# Altium schematic symbol library Resistors.SchLib: 76 symbols (part 1 of 3)
Pins are listed as number, name and electrical type; pins without a type are passive.

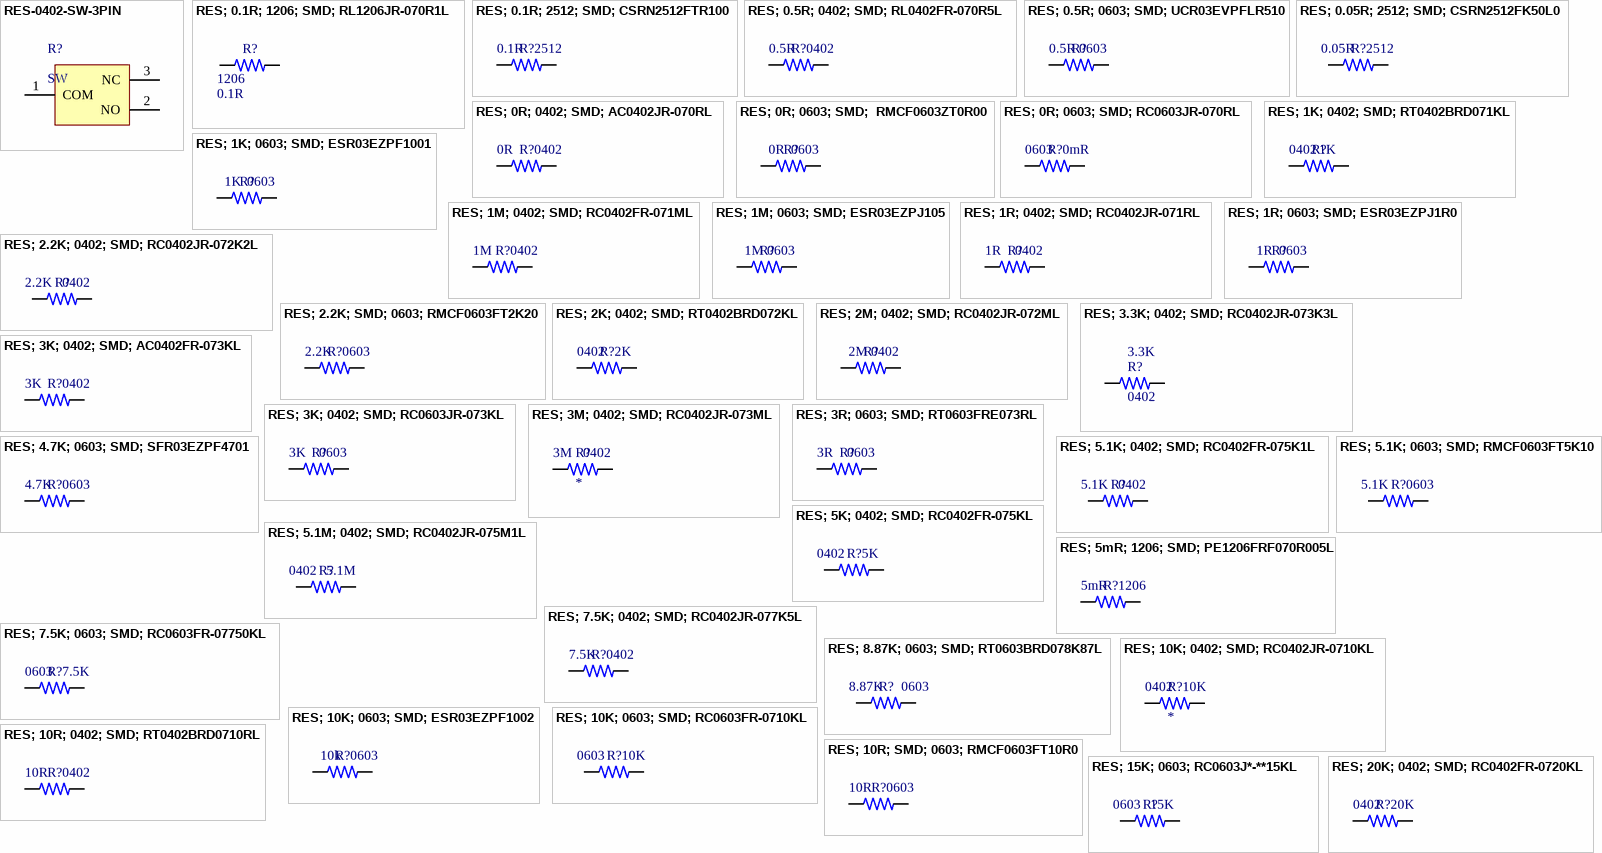
[diagram p0: symbols RES-0402-SW-3PIN to RES; 20K; 0402; SMD; RC0402FR-0720KL]

## RES-0402-SW-3PIN
designator R?, comment SW
Value: 0.1mR
footprint SMD-RES-0402-SW-A
footprint SMD-RES-0402-SW-B
footprint SMD-RES-0402-SW-C
pins: 1 COM, 2 NO, 3 NC

## RES; 0.1R; 1206; SMD; RL1206JR-070R1L
designator R?, comment value 0.1R  Package: 1206  (hidden comment: 100 mOhms ±5% 0.25W, 1/4W Chip Resistor 1206 (3216 Metric) Current Sense Thick Film)
SMD Chip Resistor, 100 MOhm, ± 5%, 250 mW, 1206 [3216 Metric], Thick Film, Low Ohmic; Manufacturer: Yageo; Manufacturer Part Number: RL1206JR-070R1L; Supplier: Future Electronics; Supplier Part Number: 1607514; RoHS: Yes; Category: Chip SMD Resistors; Stock: 195000; Pricing: 5000=0.0122, 10000=0.012, 15000=0.0119, 25000=0.0117, 50000=0.0114 (USD); ComponentLink1URL: https://datasheet.ciiva.com/8083/pyu-rl-521-rohs-l-5-8083925.pdf?src-supplier=Avnet; ComponentLink1Description: https://datasheet.ciiva.com/8083/pyu-rl-521-rohs-l-5-8083925.pdf?src-supplier=Avnet; ComponentLink2URL: https://datasheet.ciiva.com/5558/pyu-rl-hp-521-rohs-l-2-5558220.pdf?src-supplier=Mouser; ComponentLink2Description: https://datasheet.ciiva.com/5558/pyu-rl-hp-521-rohs-l-2-5558220.pdf?src-supplier=Mouser
footprint SMD-RES-1206-YAGEO
pins: 1, 2

## RES; 0.1R; 2512; SMD; CSRN2512FTR100
designator R?, comment value 0.1R  Package: 2512  (hidden comment: 100 mOhms ±1% 2W Chip Resistor 2512 (6432 Metric) Automotive AEC-Q200, Current Sense Thick Film)
Res Thick Film 2512 0.1 Ohm 1% 2W ±200ppm/°C Molded SMD SMD Plastic T/R; Manufacturer: Stackpole Electronics; Manufacturer Part Number: CSRN2512FTR100; Designer: TVBac; Supplier: Digikey; Supplier Part Number: CSRN2512FTR100CT-ND; RoHS: Yes; Category: Chip SMD Resistors; Stock: 1275; Pricing: 1=0.63, 10=0.357, 25=0.2888, 50=0.2474, 100=0.2129, 250=0.17608, 500=0.15346, 1000=0.13457, 4000=0.10551, 8000=0.1 (USD); Mounting Technology: Surface Mount; Case/Package: 2512; Case Code (Metric): 6432; Case Code (Imperial): 2512; Contact Plating: Tin,Matte; Min Operating Temperature: -55°C; Max Operating Temperature: 155°C; Power Rating: 2W; Tolerance: 1%; Packaging: Tape and Reel; Number of Terminations: 2; Max Power Dissipation: 2W; Temperature Coefficient: 200ppm/°C; Series: CSRN; Length: 0.25inch; Width: 0.124inch; Height: 0.028inch; Radiation Hardening: No; RoHS Compliant: Yes; ComponentLink1URL: https://www.seielect.com/Catalog/SEI-CSR_CSRN.pdf?src-supplier=Digikey; ComponentLink1Description: https://www.seielect.com/Catalog/SEI-CSR_CSRN.pdf?src-supplier=Digikey; ComponentLink2URL: https://www.seielect.com/catalog/SEI-Packaging.pdf?src-supplier=Digikey; ComponentLink2Description: https://www.seielect.com/catalog/SEI-Packaging.pdf?src-supplier=Digikey; ComponentLink3URL: https://www.seielect.com/Catalog/SEI-CSR_CSRN.pdf?src-supplier=Avnet; ComponentLink3Description: https://www.seielect.com/Catalog/SEI-CSR_CSRN.pdf?src-supplier=Avnet; ComponentLink4Description: Link Digikey; ComponentLink4URL: https://digikey.com/en/products/detail/stackpole-electronics-inc/CSRN2512FTR100/1742740
footprint SMD-RES-2512-SE
pins: 1, 2

## RES; 0.5R; 0402; SMD; RL0402FR-070R5L
designator R?, comment value 0.5R  Package: 0402  (hidden comment: 500 mOhms ±1% 0.063W, 1/16W Chip Resistor 0402 (1005 Metric) Current Sense Thick Film)
SMD Current Sense Resistor, 0.5 ohm, RL Series, 0402 [1005 Metric], 63 mW, ï¿½ 1%, Thick Film; Manufacturer: Yageo; Manufacturer Part Number: RL0402FR-070R5L; Supplier: Future Electronics; Supplier Part Number: 7039224; RoHS: Yes; Category: Chip SMD Resistors; Stock: 10000; Pricing: 10000=0.0223, 20000=0.022, 30000=0.0218, 40000=0.0216, 50000=0.0212 (USD); Lead Free: 5697LeadFree; ComponentLink1URL: http://www.mouser.com/ds/2/447/PYu-RL_521_RoHS_L_5-2927.pdf?src-supplier=Mouser; ComponentLink1Description: http://www.mouser.com/ds/2/447/PYu-RL_521_RoHS_L_5-2927.pdf?src-supplier=Mouser; ComponentLink2URL: http://www.yageo.com/exep/pages/download/literatures/R-chip_current%20sensor_20140512.pdf?src-supplier=Digikey; ComponentLink2Description: http://www.yageo.com/exep/pages/download/literatures/R-chip_current%20sensor_20140512.pdf?src-supplier=Digikey; ComponentLink3URL: http://www.yageo.com/documents/recent/PYu-RL_Group_521_RoHS_L_2.pdf?src-supplier=Digikey; ComponentLink3Description: http://www.yageo.com/documents/recent/PYu-RL_Group_521_RoHS_L_2.pdf?src-supplier=Digikey; ComponentLink4URL: https://datasheet.octopart.com/RL0402FR-070R5L-Yageo-datasheet-83209227.pdf?src-supplier=Future+Electronics; ComponentLink4Description: https://datasheet.octopart.com/RL0402FR-070R5L-Yageo-datasheet-83209227.pdf?src-supplier=Future+Electronics
footprint SMD-RES-0402-YAGEO
pins: 1, 2

## RES; 0.5R; 0603; SMD; UCR03EVPFLR510
designator R?, comment value 0.5R  Package: 0603  (hidden comment: 510 mOhms ±1% 0.2W, 1/5W Chip Resistor 0603 (1608 Metric) Automotive AEC-Q200, Current Sense Thick Film)
Res Thick Film 0603 0.51 Ohm 1% 0.2W(1/5W) 0ppm/C to 150ppm/C Pad SMD T/R Automotive AEC-Q200; Manufacturer: Rohm; Manufacturer Part Number: UCR03EVPFLR510; Temperature Coefficient: 150ppm/°C; Max Power Dissipation: 200mW; Designer: TVBac; Supplier: Mouser; Supplier Part Number: 755-UCR03EVPFLR510; RoHS: Yes; Category: Chip SMD Resistors; Stock: 9265; Pricing: 1=0.63, 10=0.319, 50=0.319, 100=0.229, 1000=0.153, 10000=0.136 (USD); Case/Package: 0603; Case Code (Metric): 1608; Case Code (Imperial): 0603; Min Operating Temperature: -55°C; Max Operating Temperature: 155°C; Packaging: Cut Tape; Tolerance: 1%; Number of Terminations: 2; Features: Automotive AEC-Q200; Series: UCR; Ratings: AEC-Q200; Lead Free: Lead Free; RoHS Compliant: Yes; ComponentLink1URL: https://datasheet.ciiva.com/14926/ucr-14926334.pdf?src-supplier=Digikey; ComponentLink1Description: https://datasheet.ciiva.com/14926/ucr-14926334.pdf?src-supplier=Digikey; ComponentLink2URL: https://datasheet.ciiva.com/14927/ucr-14927064.pdf?src-supplier=Digikey; ComponentLink2Description: https://datasheet.ciiva.com/14927/ucr-14927064.pdf?src-supplier=Digikey; ComponentLink3Description: Link Digikey; ComponentLink3URL: https://www.digikey.com/en/products/detail/rohm-semiconductor/UCR03EVPFLR510/4053600
footprint SMD-RES-0603-RS
pins: 1, 2

## RES; 0.05R; 2512; SMD; CSRN2512FK50L0
designator R?, comment value 0.05R  Package: 2512  (hidden comment: 50 mOhms ±1% 2W Chip Resistor 2512 (6432 Metric) Automotive AEC-Q200, Current Sense Thick Film)
Res Thick Film 2512 0.05 Ohm 1% 2W ±200ppm/°C Molded SMD SMD Plastic T/R; Manufacturer: Stackpole Electronics; Manufacturer Part Number: CSRN2512FK50L0; Designer: TVBac; Supplier: Digikey; Supplier Part Number: CSRN2512FK50L0CT-ND; RoHS: Yes; Category: Chip SMD Resistors; Stock: 130078; Pricing: 1=0.58, 10=0.407, 25=0.3484, 50=0.303, 100=0.2374, 250=0.21716, 500=0.17676 (USD); Mounting Technology: Surface Mount; Case/Package: 2512; Case Code (Metric): 6432; Case Code (Imperial): 2512; Contact Plating: Tin,Matte; Min Operating Temperature: -55°C; Max Operating Temperature: 155°C; Power Rating: 2W; Tolerance: 1%; Packaging: Tape and Reel; Number of Terminations: 2; Max Power Dissipation: 2W; Temperature Coefficient: 200ppm/°C; Series: CSRN; Construction: Rectangular; Length: 0.25inch; Width: 0.124inch; Height: 0.028inch; Depth: 3.15mm; Radiation Hardening: No; Military Standard: Not; Lead Free: Lead Free; RoHS Compliant: Yes; ComponentLink1URL: http://components.arrow.com/part/dataview/53687893S278672N1174?src-supplier=Arrow+Electronics; ComponentLink1Description: http://components.arrow.com/part/dataview/53687893S278672N1174?src-supplier=Arrow+Electronics; ComponentLink2URL: https://www.seielect.com/Catalog/SEI-CSR_CSRN.pdf?src-supplier=Digikey; ComponentLink2Description: https://www.seielect.com/Catalog/SEI-CSR_CSRN.pdf?src-supplier=Digikey; ComponentLink3URL: https://www.seielect.com/catalog/SEI-Packaging.pdf?src-supplier=Digikey; ComponentLink3Description: https://www.seielect.com/catalog/SEI-Packaging.pdf?src-supplier=Digikey; ComponentLink4URL: https://www.seielect.com/Catalog/SEI-CSR_CSRN.pdf?src-supplier=Avnet; ComponentLink4Description: https://www.seielect.com/Catalog/SEI-CSR_CSRN.pdf?src-supplier=Avnet; ComponentLink5URL: https://www.verical.com/server-webapp/html/getDatasheet?partID=698872&src-supplier=Verical; ComponentLink5Description: https://www.verical.com/server-webapp/html/getDatasheet?partID=698872&src-supplier=Verical; ComponentLink6URL: http://www.seielect.com/Catalog/SEI-CSR_CSRN.pdf?src-supplier=Future+Electronics; ComponentLink6Description: http://www.seielect.com/Catalog/SEI-CSR_CSRN.pdf?src-supplier=Future+Electronics; ComponentLink7Description: Link Digikey; ComponentLink7URL: https://www.digikey.com/en/products/detail/stackpole-electronics-inc/CSRN2512FK50L0/1646108
footprint SMD-RES-2512-SE
pins: 1, 2

## RES; 0R; 0402; SMD; AC0402JR-070RL
designator R?, comment value 0R  Package: 0402  (hidden comment: 0 Ohms Jumper Chip Resistor 0402 (1005 Metric) Automotive AEC-Q200, Moisture Resistant Thick Film)
Zero Ohm Resistor, Jumper, 0402 [1005 Metric], Thick Film, 63 mW, 1 A, Surface Mount Device; Manufacturer: Yageo; Manufacturer Part Number: AC0402JR-070RL; Voltage Rating: 50V; Power Rating: 62.5mW; Tolerance: 5%; Temperature Coefficient: 200ppm/°C; Max Power Dissipation: 63mW; Supplier: Future Electronics; Supplier Part Number: 9026879; RoHS: Yes; Category: Chip SMD Resistors; Stock: 7190000; Pricing: 10000=0.0014, 30000=0.0014, 40000=0.0009, 50000=0.0014, 200000=0.0013, 300000=0.0013, 400000=0.0008, 1250000=0.0008 (USD); Case/Package: 0402; Case Code (Imperial): 0402; Case Code (Metric): 1005; Min Operating Temperature: -55°C; Max Operating Temperature: 155°C; Packaging: Tape and Reel; Package Quantity: 1; Termination: SMD/SMT; Number of Terminations: 2; Features: Moisture Resistant,Automotive AEC-Q200,Anti-Sulfur; Series: AC; Length: 0.039inch; Width: 0.02inch; Height: 0.015inch; Ratings: AEC-Q200; Lead Free: Lead Free; RoHS Compliant: Yes; ComponentLink1URL: http://www.mouser.com/ds/2/447/yageodocoutput-1111992.pdf?src-supplier=Mouser; ComponentLink1Description: http://www.mouser.com/ds/2/447/yageodocoutput-1111992.pdf?src-supplier=Mouser; ComponentLink2URL: http://www.yageo.com/NewPortal/yageodocoutput?fileName=/pdf/R-Chip/PYu-AC_51_RoHS_L_6.pdf&src-supplier=Digikey; ComponentLink2Description: http://www.yageo.com/NewPortal/yageodocoutput?fileName=/pdf/R-Chip/PYu-AC_51_RoHS_L_6.pdf&src-supplier=Digikey; ComponentLink3URL: https://datasheet.octopart.com/AC0402JR-070RL-Yageo-datasheet-151884373.pdf?src-supplier=Newark; ComponentLink3Description: https://datasheet.octopart.com/AC0402JR-070RL-Yageo-datasheet-151884373.pdf?src-supplier=Newark; ComponentLink4URL: https://datasheet.octopart.com/AC0402JR-070RL-Yageo-datasheet-166720450.pdf?src-supplier=Future+Electronics; ComponentLink4Description: https://datasheet.octopart.com/AC0402JR-070RL-Yageo-datasheet-166720450.pdf?src-supplier=Future+Electronics; ComponentLink5URL: http://www.yageo.com/documents/recent/PYu-AC_51_RoHS_L_2_revised.pdf?src-supplier=Future+Electronics; ComponentLink5Description: http://www.yageo.com/documents/recent/PYu-AC_51_RoHS_L_2_revised.pdf?src-supplier=Future+Electronics
footprint SMD-RES-0402-YAGEO
pins: 1, 2

## RES; 0R; 0603; SMD;  RMCF0603ZT0R00
designator R?, comment value 0R  Package: 0603  (hidden comment: 0 Ohms Jumper Chip Resistor 0603 (1608 Metric) Automotive AEC-Q200 Thick Film)
Res Thick 0603 0 Ohm Jumper 1/10W 100Ppm/ C Smd Rohs Compliant: Yes; Manufacturer: Stackpole Electronics; Manufacturer Part Number: RMCF0603ZT0R00; Max Power Dissipation: 100mW; Voltage Rating: 75V; Designer: TVBac; Supplier: Digikey; Supplier Part Number: RMCF0603ZT0R00CT-ND; RoHS: Yes; Category: Chip SMD Resistors; Stock: 5949380; Pricing: 1=0.1, 10=0.013, 25=0.0096, 50=0.0072, 100=0.0051, 250=0.00408, 500=0.00328, 1000=0.00241, 5000=0.00173, 10000=0.0015, 25000=0.00132, 50000=0.00121, 125000=0.00118 (USD); Mounting Technology: Surface Mount; Case/Package: 0603; Case Code (Metric): 1608; Case Code (Imperial): 0603; Contact Plating: Tin,Matte; Min Operating Temperature: -55°C; Max Operating Temperature: 155°C; Packaging: Tape and Reel; Number of Terminations: 2; Features: Automotive AEC-Q200; Series: RMCF; Construction: Rectangular; Length: 1.55mm; Width: 0.031inch; Height: 0.022inch; Depth: 0.8mm; Radiation Hardening: No; Lead Free: 5697LeadFree; Military Standard: Not; RoHS Compliant: Yes; ComponentLink1URL: https://datasheet.octopart.com/RMCF0603ZT0R00-Stackpole-Electronics-datasheet-11547379.pdf?src-supplier=Future+Electronics; ComponentLink1Description: https://datasheet.octopart.com/RMCF0603ZT0R00-Stackpole-Electronics-datasheet-11547379.pdf?src-supplier=Future+Electronics; ComponentLink2URL: https://www.seielect.com/catalog/SEI-Packaging.pdf?src-supplier=Avnet; ComponentLink2Description: https://www.seielect.com/catalog/SEI-Packaging.pdf?src-supplier=Avnet; ComponentLink3URL: https://www.seielect.com/catalog/SEI-Packaging.pdf?src-supplier=Arrow+Electronics; ComponentLink3Description: https://www.seielect.com/catalog/SEI-Packaging.pdf?src-supplier=Arrow+Electronics; ComponentLink4URL: https://www.seielect.com/catalog/SEI-Packaging.pdf?src-supplier=Verical; ComponentLink4Description: https://www.seielect.com/catalog/SEI-Packaging.pdf?src-supplier=Verical; ComponentLink5URL: https://www.seielect.com/Catalog/SEI-RMCF_RMCP.pdf?src-supplier=Digikey; ComponentLink5Description: https://www.seielect.com/Catalog/SEI-RMCF_RMCP.pdf?src-supplier=Digikey; ComponentLink6URL: https://www.seielect.com/catalog/SEI-Packaging.pdf?src-supplier=Digikey; ComponentLink6Description: https://www.seielect.com/catalog/SEI-Packaging.pdf?src-supplier=Digikey; ComponentLink7URL: https://datasheet.octopart.com/RMCF0603ZT0R00-Stackpole-Electronics-datasheet-154799224.pdf?src-supplier=Master+Electronics; ComponentLink7Description: https://datasheet.octopart.com/RMCF0603ZT0R00-Stackpole-Electronics-datasheet-154799224.pdf?src-supplier=Master+Electronics; ComponentLink8Description: Link Digikey; ComponentLink8URL: https://www.digikey.com/en/products/detail/stackpole-electronics-inc/RMCF0603ZT0R00/1756908
footprint SMD-RES-0603-SEI
pins: 1, 2

## RES; 0R; 0603; SMD; RC0603JR-070RL
designator R?, comment value 0mR  Package: 0603  (hidden comment: 0 Ohms Jumper Chip Resistor 0603 (1608 Metric) Moisture Resistant Thick Film)
GENERAL PURPOSE CHIP RESISTOR Metal Glaze/thick Film, 0.1W, 0ohm, Surface Mount, 0603; Manufacturer: Yageo; Manufacturer Part Number: RC0603JR-070RL; Tolerance: 1%; Power Rating: 100mW; Voltage Rating (DC): 50V; Temperature Coefficient: 200ppm/°C; Resistance Tolerance: 5%; Supplier: Future Electronics; Supplier Part Number: 3992146; RoHS: Yes; Category: Chip SMD Resistors; Stock: 6155000; Pricing: 5000=0.0021, 20000=0.002, 25000=0.0012, 50000=0.0019, 100000=0.0012, 125000=0.0019, 200000=0.0018, 250000=0.0012, 625000=0.0011 (USD); Case/Package: 0603; Pins: 2; Contact Plating: Tin,Matte; Case Code (Imperial): 0603; Case Code (Metric): 1608; Min Operating Temperature: -55°C; Max Operating Temperature: 155°C; Package Quantity: 5000; Voltage Rating: 50V; Packaging: Tape and Reel; Termination: SMD/SMT; Resistor Type: Thick Film; Features: Moisture Resistant; Series: RC; Max Power Dissipation: 100mW; Number of Terminations: 2; Construction: Rectangular; Technology: THICK FILM; Length: 1.6mm; Width: 0.8mm; Height: 0.45mm; Depth: 0.8mm; Reach SVHC Compliant: Unknown; Lead Free: 5697LeadFree; Military Standard: Not; RoHS Compliant: Yes; ComponentLink1URL: https://datasheet.ciiva.com/11808/pyu-r-int-6-11808700.pdf?src-supplier=Rs; ComponentLink1Description: https://datasheet.ciiva.com/11808/pyu-r-int-6-11808700.pdf?src-supplier=Rs; ComponentLink2URL: https://datasheet.ciiva.com/22747/443971-22747530.pdf?src-supplier=Element14; ComponentLink2Description: https://datasheet.ciiva.com/22747/443971-22747530.pdf?src-supplier=Element14; ComponentLink3URL: https://datasheet.ciiva.com/12555/rc0603-272842-12555254.pdf?src-supplier=Mouser; ComponentLink3Description: https://datasheet.ciiva.com/12555/rc0603-272842-12555254.pdf?src-supplier=Mouser; ComponentLink4URL: https://datasheet.ciiva.com/7746/1738695-7746421.pdf?src-supplier=Element14; ComponentLink4Description: https://datasheet.ciiva.com/7746/1738695-7746421.pdf?src-supplier=Element14; ComponentLink5URL: https://datasheet.ciiva.com/7746/1738695-7746422.pdf?src-supplier=Element14; ComponentLink5Description: https://datasheet.ciiva.com/7746/1738695-7746422.pdf?src-supplier=Element14
footprint SMD-RES-0603-YAGEO
pins: 1, 2

## RES; 1K; 0402; SMD; RT0402BRD071KL
designator R?, comment value 1K  Package: 0402  (hidden comment: 1 kOhms ±0.1% 0.063W, 1/16W Chip Resistor 0402 (1005 Metric) Thin Film)
Res Thin Film 0402 1K Ohm 0.1% 0.063W(1/16W) ±25ppm/C Pad SMD T/R; Manufacturer: Yageo; Manufacturer Part Number: RT0402BRD071KL; Voltage Rating (DC): 50V; Supplier: Future Electronics; Supplier Part Number: 4395265; RoHS: Yes; Category: Chip SMD Resistors; Stock: 180000; Pricing: 10000=0.0311, 20000=0.0196, 30000=0.0194, 40000=0.0193, 50000=0.0189 (USD); Lead Free: 5697LeadFree; ComponentLink1URL: https://datasheet.ciiva.com/2582/pyu-rt-1-to-0-05-rohs-l-4-2582219.pdf?src-supplier=Digikey; ComponentLink1Description: https://datasheet.ciiva.com/2582/pyu-rt-1-to-0-05-rohs-l-4-2582219.pdf?src-supplier=Digikey; ComponentLink2URL: https://datasheet.ciiva.com/12837/pyu-rt-1-to-0-05-rohs-l-4-12837237.pdf?src-supplier=Mouser; ComponentLink2Description: https://datasheet.ciiva.com/12837/pyu-rt-1-to-0-05-rohs-l-4-12837237.pdf?src-supplier=Mouser; ComponentLink3URL: https://datasheet.ciiva.com/46635/pyu-rt-1-to-0-05-rohs-l-5-46635179.pdf?src-supplier=Digikey; ComponentLink3Description: https://datasheet.ciiva.com/46635/pyu-rt-1-to-0-05-rohs-l-5-46635179.pdf?src-supplier=Digikey
footprint SMD-RES-0402-YAGEO
pins: 1, 2

## RES; 1K; 0603; SMD; ESR03EZPF1001
designator R?, comment value 1K  Package: 0603  (hidden comment: 1 kOhms ±1% 0.25W, 1/4W Chip Resistor 0603 (1608 Metric) Automotive AEC-Q200, Pulse Withstanding Thick Film)
SMD Chip Resistor, 1 kOhm, ± 1%, 250 mW, 0603 [1608 Metric], Thick Film, Anti-Surge; Manufacturer: Rohm; Manufacturer Part Number: ESR03EZPF1001; Voltage Rating: 150V; Designer: TVBac; Supplier: Digikey; Supplier Part Number: RHM1.00KADCT-ND; RoHS: Yes; Category: Chip SMD Resistors; Stock: 2703233; Pricing: 1=0.11, 10=0.055, 50=0.0364, 100=0.0309, 500=0.02206, 1000=0.01943 (USD); Voltage Rating (DC): 150V; Lead Free: 5697LeadFree; ComponentLink1URL: https://datasheet.ciiva.com/2469/esr-2469712.pdf?src-supplier=Digikey; ComponentLink1Description: https://datasheet.ciiva.com/2469/esr-2469712.pdf?src-supplier=Digikey; ComponentLink2URL: https://datasheet.ciiva.com/2469/esr-2469713.pdf?src-supplier=Digikey; ComponentLink2Description: https://datasheet.ciiva.com/2469/esr-2469713.pdf?src-supplier=Digikey; ComponentLink3URL: https://datasheet.ciiva.com/2469/esr-2469714.pdf?src-supplier=Digikey; ComponentLink3Description: https://datasheet.ciiva.com/2469/esr-2469714.pdf?src-supplier=Digikey; ComponentLink4Description: Link Digikey; ComponentLink4URL: https://www.digikey.com/en/products/detail/rohm-semiconductor/ESR03EZPF1001/1983428
footprint SMD-RES-0603-SEI
pins: 1, 2

## RES; 1M; 0402; SMD; RC0402FR-071ML
designator R?, comment value 1M  Package: 0402  (hidden comment: 1 MOhms ±1% 0.063W, 1/16W Chip Resistor 0402 (1005 Metric) Moisture Resistant Thick Film)
SMD Chip Resistor 1 Mohm ½ 1% 63 Mw 0402 [1005 Metric] Thick Film General Purpose; Manufacturer: Yageo; Manufacturer Part Number: RC0402FR-071ML; Power Rating: 63mW; Voltage Rating: 50V; Temperature Coefficient: 100ppm/°C; Supplier: Future Electronics; Supplier Part Number: 9919234; RoHS: Yes; Category: Chip SMD Resistors; Stock: 4880000; Pricing: 10000=0.0012, 30000=0.0012, 50000=0.0007, 100000=0.0011, 200000=0.0011, 400000=0.0011, 500000=0.0007, 1250000=0.0006 (USD); Case/Package: 0402; Case Code (Imperial): 0402; Case Code (Metric): 1005; Min Operating Temperature: -55°C; Max Operating Temperature: 155°C; Packaging: Tape and Reel; Tolerance: 1%; Termination: SMD/SMT; Resistor Type: Thick Film; Features: Moisture Resistant; Series: RC; Max Power Dissipation: 63mW; Number of Terminations: 2; Resistance Tolerance: 1%; Construction: Rectangular; Technology: THICK FILM; Length: 1mm; Height: 0.32mm; Depth: 0.5mm; Military Standard: Not; RoHS Compliant: Yes; Reach SVHC Compliant: Unknown; Lead Free: 5697LeadFree
footprint SMD-RES-0402-YAGEO
pins: 1, 2

## RES; 1M; 0603; SMD; ESR03EZPJ105
designator R?, comment value 1M  Package: 0603  (hidden comment: 1 MOhms ±5% 0.25W, 1/4W Chip Resistor 0603 (1608 Metric) Automotive AEC-Q200, Pulse Withstanding Thick Film)
Res Thick Film 0603 1M Ohm 5% 0.25W(1/4W) ±200ppm/C Pad SMD Automotive T/R; Manufacturer: Rohm; Manufacturer Part Number: ESR03EZPJ105; Designer: TVBac; Supplier: Digikey; Supplier Part Number: RHM1MDCT-ND; RoHS: Yes; Category: Chip SMD Resistors; Stock: 155369; Pricing: 1=0.1, 10=0.048, 50=0.0312, 100=0.0265, 500=0.0188, 1000=0.0165 (USD); ComponentLink1URL: https://datasheet.ciiva.com/14924/esr-14924812.pdf?src-supplier=Digikey; ComponentLink1Description: https://datasheet.ciiva.com/14924/esr-14924812.pdf?src-supplier=Digikey; ComponentLink2URL: https://datasheet.ciiva.com/14928/esr-14928814.pdf?src-supplier=Digikey; ComponentLink2Description: https://datasheet.ciiva.com/14928/esr-14928814.pdf?src-supplier=Digikey; ComponentLink3URL: https://datasheet.ciiva.com/14930/esr-14930634.pdf?src-supplier=Digikey; ComponentLink3Description: https://datasheet.ciiva.com/14930/esr-14930634.pdf?src-supplier=Digikey; ComponentLink4Description: Link Digikey; ComponentLink4URL: https://www.digikey.com/en/products/detail/rohm-semiconductor/ESR03EZPJ105/4051181
footprint SMD-RES-0603-SEI
pins: 1, 2

## RES; 1R; 0402; SMD; RC0402JR-071RL
designator R?, comment value 1R  Package: 0402  (hidden comment: 1 Ohms ±5% 0.063W, 1/16W Chip Resistor 0402 (1005 Metric) Moisture Resistant Thick Film)
SMD Chip Resistor, 1 Ohm, ï¿½ 5%, 63 mW, 0402 [1005 Metric], Thick Film, General Purpose; Manufacturer: Yageo; Manufacturer Part Number: RC0402JR-071RL; Power Rating: 62.5mW; Voltage Rating: 50V; Temperature Coefficient: 200ppm/°C; Max Power Dissipation: 63mW; Supplier: Future Electronics; Supplier Part Number: 7711575; RoHS: Yes; Category: Chip SMD Resistors; Stock: 380000; Pricing: 10000=0.0012, 40000=0.0011, 150000=0.0011, 400000=0.001, 1000000=0.001 (USD); Case/Package: 0402; Case Code (Imperial): 0402; Case Code (Metric): 1005; Min Operating Temperature: -55°C; Max Operating Temperature: 155°C; Packaging: Tape and Reel; Tolerance: 5%; Termination: SMD/SMT; Resistor Type: Thick Film; Voltage Rating (DC): 50V; Features: Moisture Resistant; Series: RC; Number of Terminations: 2; Resistance Tolerance: 5%; Lead Free: Lead Free; RoHS Compliant: Yes; Reach SVHC Compliant: Unknown
footprint SMD-RES-0402-YAGEO
pins: 1, 2

## RES; 1R; 0603; SMD; ESR03EZPJ1R0
designator R?, comment value 1R  Package: 0603  (hidden comment: 1 Ohms ±5% 0.25W, 1/4W Chip Resistor 0603 (1608 Metric) Automotive AEC-Q200, Pulse Withstanding Thick Film)
Res Thick Film 0603 1 Ohm 5% 1/4W ±200ppm/°C Molded SMD Paper T/R; Manufacturer: Rohm; Manufacturer Part Number: ESR03EZPJ1R0; Max Power Dissipation: 250mW; Designer: TVBac; Supplier: Digikey; Supplier Part Number: RHM1DCT-ND; RoHS: Yes; Category: Chip SMD Resistors; Stock: 69330; Pricing: 1=0.14, 10=0.068, 50=0.0446, 100=0.0377, 500=0.02674, 1000=0.02347 (USD); Case/Package: 0603; Case Code (Metric): 1608; Case Code (Imperial): 0603; Min Operating Temperature: -55°C; Max Operating Temperature: 155°C; Package Quantity: 1; Packaging: Cut Tape; Tolerance: 5%; Number of Terminations: 2; Temperature Coefficient: 200ppm/°C; Features: Automotive AEC-Q200; Series: ESR; Length: 0.063inch; Width: 0.031inch; Height: 0.022inch; Lead Free: Lead Free; RoHS Compliant: Yes; ComponentLink1URL: https://datasheet.ciiva.com/14924/esr-14924789.pdf?src-supplier=Digikey; ComponentLink1Description: https://datasheet.ciiva.com/14924/esr-14924789.pdf?src-supplier=Digikey; ComponentLink2URL: https://datasheet.ciiva.com/14928/esr-14928791.pdf?src-supplier=Digikey; ComponentLink2Description: https://datasheet.ciiva.com/14928/esr-14928791.pdf?src-supplier=Digikey; ComponentLink3Description: Link Digikey; ComponentLink3URL: https://www.digikey.com/en/products/detail/rohm-semiconductor/ESR03EZPJ1R0/4051208
footprint SMD-RES-0603-SEI
pins: 1, 2

## RES; 2.2K; 0402; SMD; RC0402JR-072K2L
designator R?, comment value 2.2K  Package: 0402  (hidden comment: 2.2 kOhms ±5% 0.063W, 1/16W Chip Resistor 0402 (1005 Metric) Moisture Resistant Thick Film)
SMD Chip Resistor, 2.2 kohm, ï¿½ 5%, 62.5 mW, 0402 [1005 Metric], Thick Film, General Purpose; Manufacturer: Yageo; Manufacturer Part Number: RC0402JR-072K2L; Voltage Rating (AC): 50V; Power Rating: 62.5mW; Temperature Coefficient: 100ppm/°C; Max Power Dissipation: 63mW; Supplier: Future Electronics; Supplier Part Number: 3603032; RoHS: Yes; Category: Chip SMD Resistors; Stock: 2030000; Pricing: 10000=0.0009, 40000=0.0009, 50000=0.0006, 100000=0.0009, 250000=0.0008, 400000=0.0008, 500000=0.0005, 1500000=0.0005 (USD); Case/Package: 0402; Case Code (Metric): 1005; Case Code (Imperial): 0402; Weight: 2.3E-05oz; Min Operating Temperature: -55°C; Max Operating Temperature: 155°C; Package Quantity: 1; Tolerance: 5%; Packaging: Tape and Reel; Voltage Rating: 50V; Resistor Type: Thick Film; Number of Terminations: 2; Termination: SMD/SMT; Working Voltage: 50V; Features: Moisture Resistant; Series: RC; Resistance Tolerance: 5%; Construction: Rectangular; Technology: THICK FILM; Length: 1mm; Width: 0.02inch; Height: 0.016inch; Depth: 0.5mm; Lead Free: 5697LeadFree; Reach SVHC Compliant: No; Military Standard: Not; RoHS Compliant: Yes
footprint SMD-RES-0402-YAGEO
pins: 1, 2

## RES; 2.2K; SMD; 0603; RMCF0603FT2K20
designator R?, comment value 2.2K  Package: 0603  (hidden comment: 2.2 kOhms ±1% 0.1W, 1/10W Chip Resistor 0603 (1608 Metric) Automotive AEC-Q200 Thick Film)
Res Thick Film 0603 2.2K Ohm 1% 0.1W(1/10W) ±100ppm/C Pad SMD Automotive T/R; Manufacturer: Stackpole Electronics; Manufacturer Part Number: RMCF0603FT2K20; Power Rating: 100mW; Temperature Coefficient: 100ppm/°C; Voltage Rating: 75V; Designer: TVBac; Supplier: Digikey; Supplier Part Number: RMCF0603FT2K20CT-ND; RoHS: Yes; Category: Chip SMD Resistors; Stock: 496567; Pricing: 1=0.1, 10=0.015, 50=0.0092, 100=0.0075, 500=0.0049, 1000=0.00415 (USD); Mounting Technology: Surface Mount; Case/Package: 0603; Case Code (Metric): 1608; Case Code (Imperial): 0603; Contact Plating: Tin,Matte; Min Operating Temperature: -55°C; Max Operating Temperature: 155°C; Tolerance: 1%; Packaging: Tape and Reel; Number of Terminations: 2; Max Power Dissipation: 100mW; Features: Automotive AEC-Q200; Series: RMCF; Length: 0.061inch; Width: 0.031inch; Height: 0.022inch; Ratings: AEC-Q200; Radiation Hardening: No; Lead Free: Lead Free; RoHS Compliant: Yes; ComponentLink1URL: http://components.arrow.com/part/dataview/46931077S7088098N1174?src-supplier=Arrow+Electronics; ComponentLink1Description: http://components.arrow.com/part/dataview/46931077S7088098N1174?src-supplier=Arrow+Electronics; ComponentLink2URL: https://datasheet.octopart.com/RMCF0603FT2K20-Stackpole-Electronics-datasheet-11547379.pdf?src-supplier=Future+Electronics; ComponentLink2Description: https://datasheet.octopart.com/RMCF0603FT2K20-Stackpole-Electronics-datasheet-11547379.pdf?src-supplier=Future+Electronics; ComponentLink3URL: https://www.seielect.com/catalog/SEI-RMCF_RMCP.pdf?src-supplier=Avnet; ComponentLink3Description: https://www.seielect.com/catalog/SEI-RMCF_RMCP.pdf?src-supplier=Avnet; ComponentLink4URL: http://www.seielect.com/Catalog/SEI-rmc.pdf?src-supplier=Future+Electronics; ComponentLink4Description: http://www.seielect.com/Catalog/SEI-rmc.pdf?src-supplier=Future+Electronics; ComponentLink5URL: https://www.seielect.com/catalog/SEI-Packaging.pdf?src-supplier=Digikey; ComponentLink5Description: https://www.seielect.com/catalog/SEI-Packaging.pdf?src-supplier=Digikey; ComponentLink6Description: Link Digikey; ComponentLink6URL: https://www.digikey.com/en/products/detail/stackpole-electronics-inc/RMCF0603FT2K20/1760987
footprint SMD-RES-0603-SEI
pins: 1, 2

## RES; 2K; 0402; SMD; RT0402BRD072KL
designator R?, comment value 2K  Package: 0402  (hidden comment: 2 kOhms ±0.1% 0.063W, 1/16W Chip Resistor 0402 (1005 Metric) Thin Film)
Res Thin Film 0402 2K Ohm 0.1% 0.063W(1/16W) ±25ppm/C Pad SMD T/R; Manufacturer: Yageo; Manufacturer Part Number: RT0402BRD072KL; Voltage Rating (DC): 50V; Supplier: Digikey; Supplier Part Number: YAG2303CT-ND; RoHS: Yes; Category: Chip SMD Resistors; Stock: 4144; Pricing: 1=0.16, 10=0.112, 50=0.1, 100=0.0887, 500=0.06732, 1000=0.0561, 5000=0.04386 (USD); Lead Free: 5697LeadFree; ComponentLink1URL: https://datasheet.ciiva.com/2582/pyu-rt-1-to-0-05-rohs-l-5-2582299.pdf?src-supplier=Digikey; ComponentLink1Description: https://datasheet.ciiva.com/2582/pyu-rt-1-to-0-05-rohs-l-5-2582299.pdf?src-supplier=Digikey
footprint SMD-RES-0402-YAGEO
pins: 1, 2

## RES; 2M; 0402; SMD; RC0402JR-072ML
designator R?, comment value 2M  Package: 0402  (hidden comment: 2 MOhms ±5% 0.063W, 1/16W Chip Resistor 0402 (1005 Metric) Moisture Resistant Thick Film)
Res Thick Film 0402 2M Ohm 5% 0.063W(1/16W) ±100ppm/C Pad SMD T/R; Manufacturer: Yageo; Manufacturer Part Number: RC0402JR-072ML; Supplier: Future Electronics; Supplier Part Number: 5931191; RoHS: Yes; Category: Chip SMD Resistors; Stock: 120000; Pricing: 10000=0.0006, 50000=0.0005, 250000=0.0005, 500000=0.0005, 1500000=0.0005 (USD); Lead Free: 5697LeadFree; ComponentLink1URL: https://datasheet.ciiva.com/8894/pyu-rc0402-51-rohs-l-6-8894779.pdf?src-supplier=Avnet; ComponentLink1Description: https://datasheet.ciiva.com/8894/pyu-rc0402-51-rohs-l-6-8894779.pdf?src-supplier=Avnet
footprint SMD-RES-0402-YAGEO
pins: 1, 2

## RES; 3.3K; 0402; SMD; RC0402JR-073K3L
designator R?  value 3.3K  Package: 0402  (hidden comment: *)
SMD Chip Resistor, 3.3 kohm, ï¿½ 5%, 62.5 mW, 0402 [1005 Metric], Thick Film, General Purpose; Manufacturer: Yageo; Manufacturer Part Number: RC0402JR-073K3L; Voltage Rating (AC): 50V; Power Rating: 62.5mW; Temperature Coefficient: 100ppm/°C; Max Power Dissipation: 63mW; Supplier: Future Electronics; Supplier Part Number: 9278441; RoHS: Yes; Category: Chip SMD Resistors; Stock: 270000; Pricing: 10000=0.0009, 40000=0.0009, 50000=0.0006, 100000=0.0009, 250000=0.0008, 400000=0.0008, 500000=0.0005, 1500000=0.0005 (USD); Case/Package: 0402; Case Code (Imperial): 0402; Case Code (Metric): 1005; Min Operating Temperature: -55°C; Max Operating Temperature: 155°C; Tolerance: 5%; Voltage Rating: 50V; Packaging: Tape and Reel; Termination: SMD/SMT; Resistor Type: Thick Film; Features: Moisture Resistant; Series: RC; Number of Terminations: 2; Resistance Tolerance: 5%; Lead Free: 5697LeadFree; Reach SVHC Compliant: No; RoHS Compliant: Yes; ComponentLink1URL: https://datasheet.ciiva.com/12666/pyu-rc0402-51-rohs-l-6-r-12666971.pdf?src-supplier=Mouser; ComponentLink1Description: https://datasheet.ciiva.com/12666/pyu-rc0402-51-rohs-l-6-r-12666971.pdf?src-supplier=Mouser
footprint SMD-RES-0402-YAGEO
pins: 1, 2

## RES; 3K; 0402; SMD; AC0402FR-073KL
designator R?, comment value 3K  Package: 0402  (hidden comment: 3 kOhms ±1% 0.063W, 1/16W Chip Resistor 0402 (1005 Metric) Automotive AEC-Q200, Moisture Resistant Thick Film)
Res Thick Film 0402 3K Ohm 1% 0.063W(1/16W) ±100ppm/C Pad SMD Automotive T/R; Manufacturer: Yageo; Manufacturer Part Number: AC0402FR-073KL; Power Rating: 62.5mW; Voltage Rating: 50V; Temperature Coefficient: 100ppm/°C; Max Power Dissipation: 63mW; Supplier: Digikey; Supplier Part Number: YAG3485CT-ND; RoHS: Yes; Category: Chip SMD Resistors; Stock: 179345; Pricing: 1=0.1, 10=0.009, 100=0.0071, 1000=0.00612, 2500=0.0051, 5000=0.00407 (USD); Case/Package: 0402; Case Code (Imperial): 0402; Case Code (Metric): 1005; Min Operating Temperature: -55°C; Max Operating Temperature: 155°C; Tolerance: 1%; Packaging: Tape and Reel; Termination: SMD/SMT; Number of Terminations: 2; Features: Moisture Resistant,Automotive AEC-Q200; Series: AC; Length: 0.039inch; Width: 0.5mm; Height: 0.015inch; RoHS Compliant: Yes; Lead Free: 5697LeadFree; ComponentLink1URL: http://www.mouser.com/ds/2/447/yageodocoutput-1111992.pdf?src-supplier=Mouser; ComponentLink1Description: http://www.mouser.com/ds/2/447/yageodocoutput-1111992.pdf?src-supplier=Mouser; ComponentLink2URL: https://datasheet.octopart.com/AC0402FR-073KL-Yageo-datasheet-166720450.pdf?src-supplier=Future+Electronics; ComponentLink2Description: https://datasheet.octopart.com/AC0402FR-073KL-Yageo-datasheet-166720450.pdf?src-supplier=Future+Electronics; ComponentLink3URL: http://www.yageo.com/documents/recent/PYu-AC_51_RoHS_L_2_revised.pdf?src-supplier=Future+Electronics; ComponentLink3Description: http://www.yageo.com/documents/recent/PYu-AC_51_RoHS_L_2_revised.pdf?src-supplier=Future+Electronics; ComponentLink4URL: http://www.yageo.com/NewPortal/yageodocoutput?fileName=/pdf/R-Chip/PYu-AC_51_RoHS_L_6.pdf&src-supplier=Digikey; ComponentLink4Description: http://www.yageo.com/NewPortal/yageodocoutput?fileName=/pdf/R-Chip/PYu-AC_51_RoHS_L_6.pdf&src-supplier=Digikey; ComponentLink5URL: https://www.yageo.com/upload/media/product/productsearch/datasheet/rchip/PYu-AC_51_RoHS_L_7.pdf?src-supplier=Digikey; ComponentLink5Description: https://www.yageo.com/upload/media/product/productsearch/datasheet/rchip/PYu-AC_51_RoHS_L_7.pdf?src-supplier=Digikey; ComponentLink6URL: https://datasheet.octopart.com/AC0402FR-073KL-Yageo-datasheet-178509465.pdf?src-supplier=Element14; ComponentLink6Description: https://datasheet.octopart.com/AC0402FR-073KL-Yageo-datasheet-178509465.pdf?src-supplier=Element14
footprint SMD-RES-0402-YAGEO
pins: 1, 2

## RES; 3K; 0402; SMD; RC0603JR-073KL
designator R?, comment value 3K  Package: 0603  (hidden comment: 3 kOhms ±5% 0.1W, 1/10W Chip Resistor 0603 (1608 Metric) Moisture Resistant Thick Film)
SMD Chip Resistor, 3 kOhm, ï¿½ 5%, 100 mW, 0603 [1608 Metric], Thick Film, General Purpose; Manufacturer: Yageo; Manufacturer Part Number: RC0603JR-073KL; Voltage Rating (DC): 50V; Designer: TVBac; Supplier: Mouser; Supplier Part Number: 603-RC0603JR-073KL; RoHS: Yes; Category: Chip SMD Resistors; Stock: 102562; Pricing: 1=0.1, 10=0.008, 50=0.008, 100=0.006, 1000=0.005, 10000=0.002 (USD); Pins: 2NUMBER; Lead Free: 5697LeadFree; ComponentLink1URL: https://datasheet.ciiva.com/2453/pyu-r-int-thick-7-2453145.pdf?src-supplier=Digikey; ComponentLink1Description: https://datasheet.ciiva.com/2453/pyu-r-int-thick-7-2453145.pdf?src-supplier=Digikey; ComponentLink2URL: https://datasheet.ciiva.com/2453/pyu-r-int-thick-7-2453146.pdf?src-supplier=Digikey; ComponentLink2Description: https://datasheet.ciiva.com/2453/pyu-r-int-thick-7-2453146.pdf?src-supplier=Digikey; ComponentLink3URL: https://datasheet.ciiva.com/2453/pyu-r-int-thick-7-2453147.pdf?src-supplier=Digikey; ComponentLink3Description: https://datasheet.ciiva.com/2453/pyu-r-int-thick-7-2453147.pdf?src-supplier=Digikey
footprint SMD-RES-0603-YAGEO
pins: 1, 2

## RES; 3M; 0402; SMD; RC0402JR-073ML
designator R?  value 3M  Package: 0402
Res Thick Film 0402 3M Ohm 5% 0.063W(1/16W) +/-100ppm/ﾟC Epoxy SMD T/R; Manufacturer: Yageo; Manufacturer Part Number: RC0402JR-073ML; Voltage Rating (DC): 50V; Supplier: Arrow Electronics; Supplier Part Number: RC0402JR-073ML; RoHS: Yes; Category: Chip SMD Resistors; Stock: 31130; Pricing: 1=0.036, 10=0.0043, 25=0.0025, 100=0.002, 500=0.0014, 1000=0.0011, 3000=0.001, 6000=0.0009, 15000=0.0008, 30000=0.0007 (USD); Lead Free: 5697LeadFree; ComponentLink1URL: https://datasheet.ciiva.com/8893/pyu-rc0402-51-rohs-l-6-8893913.pdf?src-supplier=Avnet; ComponentLink1Description: https://datasheet.ciiva.com/8893/pyu-rc0402-51-rohs-l-6-8893913.pdf?src-supplier=Avnet; ComponentLink2URL: https://datasheet.ciiva.com/2452/pyu-r-int-thick-7-2452677.pdf?src-supplier=Digikey; ComponentLink2Description: https://datasheet.ciiva.com/2452/pyu-r-int-thick-7-2452677.pdf?src-supplier=Digikey; ComponentLink3URL: https://datasheet.ciiva.com/2452/pyu-r-int-thick-7-2452678.pdf?src-supplier=Digikey; ComponentLink3Description: https://datasheet.ciiva.com/2452/pyu-r-int-thick-7-2452678.pdf?src-supplier=Digikey; ComponentLink4URL: https://datasheet.ciiva.com/2452/pyu-r-int-thick-7-2452679.pdf?src-supplier=Digikey; ComponentLink4Description: https://datasheet.ciiva.com/2452/pyu-r-int-thick-7-2452679.pdf?src-supplier=Digikey; ComponentLink5URL: https://datasheet.ciiva.com/17073/pyu-rc0402-51-rohs-l-6-r-17073198.pdf?src-supplier=Future+Electronics; ComponentLink5Description: https://datasheet.ciiva.com/17073/pyu-rc0402-51-rohs-l-6-r-17073198.pdf?src-supplier=Future+Electronics
footprint SMD-RES-0402-YAGEO
pins: 1, 2

## RES; 3R; 0603; SMD; RT0603FRE073RL
designator R?, comment value 3R  Package: 0603  (hidden comment: 3 Ohms ±1% 0.1W, 1/10W Chip Resistor 0603 (1608 Metric) Thin Film)
Thin Film Res 0603 3 Ohm 1% 0.1W(1/10W) 50ppm/C Epoxy Pad SMD T/R; Manufacturer: Yageo; Manufacturer Part Number: RT0603FRE073RL; Max Power Dissipation: 100mW; Temperature Coefficient: 50ppm/°C; Supplier: Digikey; Supplier Part Number: 13-RT0603FRE073RLCT-ND; RoHS: Yes; Category: Chip SMD Resistors; Stock: 6986; Pricing: 1=0.1, 10=0.024, 50=0.022, 100=0.0194, 500=0.01888, 1000=0.01836 (USD); Case/Package: 0603; Min Operating Temperature: -55°C; Max Operating Temperature: 155°C; Packaging: Tape and Reel; Number of Terminations: 2; Tolerance: 1%; Features: Moisture Resistant; Series: RT; Length: 0.063inch; Width: 0.031inch; Height: 0.022inch; RoHS Compliant: Yes; ComponentLink1URL: http://www.yageo.com/documents/recent/PYu-RT_1-to-0.01_RoHS_L_8.pdf?src-supplier=Digikey; ComponentLink1Description: http://www.yageo.com/documents/recent/PYu-RT_1-to-0.01_RoHS_L_8.pdf?src-supplier=Digikey; ComponentLink2URL: https://datasheet.octopart.com/RT0603FRE073RL-Yageo-datasheet-176402239.pdf?src-supplier=Newark; ComponentLink2Description: https://datasheet.octopart.com/RT0603FRE073RL-Yageo-datasheet-176402239.pdf?src-supplier=Newark
footprint SMD-RES-0603-YAGEO
pins: 1, 2

## RES; 4.7K; 0603; SMD; SFR03EZPF4701
designator R?, comment value 4.7K  Package: 0603  (hidden comment: 4.7 kOhms ±1% 0.1W, 1/10W Chip Resistor 0603 (1608 Metric) Anti-Sulfur Thick Film)
Res Anti-Sulfured Thick Film 0603 4.7k Ohm 1% 1/10W ±100ppm/°C Molded Paper T/R; Manufacturer: Rohm; Manufacturer Part Number: SFR03EZPF4701; Power Rating: 100mW; Voltage Rating (DC): 50V; Designer: TVBac; Supplier: Mouser; Supplier Part Number: 755-SFR03EZPF4701; RoHS: Yes; Category: Chip SMD Resistors; Stock: 30180; Pricing: 1=0.14, 10=0.045, 50=0.045, 100=0.027, 1000=0.02, 10000=0.014 (USD); ComponentLink1URL: http://www.farnell.com/datasheets/2611943.pdf?src-supplier=Farnell; ComponentLink1Description: http://www.farnell.com/datasheets/2611943.pdf?src-supplier=Farnell; ComponentLink2URL: http://www.farnell.com/datasheets/2611943.pdf?src-supplier=Newark; ComponentLink2Description: http://www.farnell.com/datasheets/2611943.pdf?src-supplier=Newark; ComponentLink3URL: http://www.farnell.com/datasheets/2611943.pdf?src-supplier=Element14; ComponentLink3Description: http://www.farnell.com/datasheets/2611943.pdf?src-supplier=Element14; ComponentLink4URL: https://www.rohm.com/datasheet/SFR03EZPF/sfr-e?src-supplier=Digikey; ComponentLink4Description: https://www.rohm.com/datasheet/SFR03EZPF/sfr-e?src-supplier=Digikey; ComponentLink5Description: Link Digikey; ComponentLink5URL: https://www.digikey.com/en/products/detail/rohm-semiconductor/SFR03EZPF4701/9771855
footprint SMD-RES-0603-RS
pins: 1, 2

## RES; 5.1K; 0402; SMD; RC0402FR-075K1L
designator R?, comment value 5.1K  Package: 0402  (hidden comment: 5.1 kOhms ±1% 0.063W, 1/16W Chip Resistor 0402 (1005 Metric) Moisture Resistant Thick Film)
SMD Chip Resistor, 5.1 Kohm, ½ 1%, 62.5 Mw, 0402 [1005 Metric], Thick Film, General Purpose; Manufacturer: Yageo; Manufacturer Part Number: RC0402FR-075K1L; Power Rating: 63mW; Voltage Rating: 50V; Temperature Coefficient: 100ppm/°C; Supplier: Future Electronics; Supplier Part Number: 6053649; RoHS: Yes; Category: Chip SMD Resistors; Stock: 100000; Pricing: 10000=0.0012, 30000=0.0012, 50000=0.0007, 100000=0.0011, 200000=0.0011, 400000=0.0011, 500000=0.0007, 1250000=0.0006 (USD); Case/Package: 0402; Case Code (Metric): 1005; Case Code (Imperial): 0402; Min Operating Temperature: -55°C; Max Operating Temperature: 155°C; Tolerance: 1%; Packaging: Tape and Reel; Package Quantity: 1; Resistor Type: Thick Film; Number of Terminations: 2; Termination: SMD/SMT; Max Power Dissipation: 63mW; Features: Moisture Resistant; Series: RC; Resistance Tolerance: 1%; Technology: THICK FILM; Voltage Rating (DC): 50V; Working Voltage: 50V; Construction: Rectangular; Length: 1mm; Width: 0.02inch; Height: 0.016inch; Depth: 0.5mm; RoHS Compliant: Yes; Reach SVHC Compliant: Unknown; Lead Free: 5697LeadFree; Military Standard: Not
footprint SMD-RES-0402-YAGEO
pins: 1, 2

## RES; 5.1K; 0603; SMD; RMCF0603FT5K10
designator R?, comment value 5.1K  Package: 0603  (hidden comment: 5.1 kOhms ±1% 0.1W, 1/10W Chip Resistor 0603 (1608 Metric) Automotive AEC-Q200 Thick Film)
Res Thick Film 0603 5.1K Ohm 1% 0.1W(1/10W) ±100ppm/C Pad SMD T/R Automotive AEC-Q200; Manufacturer: Stackpole Electronics; Manufacturer Part Number: RMCF0603FT5K10; Max Power Dissipation: 100mW; Temperature Coefficient: 100ppm/°C; Voltage Rating: 75V; Supplier: Digikey; Supplier Part Number: RMCF0603FT5K10CT-ND; RoHS: Yes; Category: Chip SMD Resistors; Stock: 751079; Pricing: 1=0.1, 10=0.02, 100=0.0091, 1000=0.0048, 2500=0.00386 (USD); Mounting Technology: Surface Mount; Case/Package: 0603; Case Code (Metric): 1608; Case Code (Imperial): 0603; Contact Plating: Tin,Matte; Min Operating Temperature: -55°C; Max Operating Temperature: 155°C; Tolerance: 1%; Packaging: Tape and Reel; Number of Terminations: 2; Features: Automotive AEC-Q200; Series: RMCF; Length: 0.061inch; Width: 0.031inch; Height: 0.022inch; Radiation Hardening: No; RoHS Compliant: Yes; ComponentLink1URL: http://components.arrow.com/part/dataview/50863347S9465827N1174?src-supplier=Arrow+Electronics; ComponentLink1Description: http://components.arrow.com/part/dataview/50863347S9465827N1174?src-supplier=Arrow+Electronics; ComponentLink2URL: https://www.seielect.com/catalog/SEI-Packaging.pdf?src-supplier=Digikey; ComponentLink2Description: https://www.seielect.com/catalog/SEI-Packaging.pdf?src-supplier=Digikey; ComponentLink3URL: https://www.seielect.com/catalog/SEI-RMCF_RMCP.pdf?src-supplier=Avnet; ComponentLink3Description: https://www.seielect.com/catalog/SEI-RMCF_RMCP.pdf?src-supplier=Avnet
footprint SMD-RES-0603-SEI
pins: 1, 2

## RES; 5.1M; 0402; SMD; RC0402JR-075M1L
designator R?, comment value 5.1M  Package: 0402  (hidden comment: 5.1 MOhms ±5% 0.063W, 1/16W Chip Resistor 0402 (1005 Metric) Moisture Resistant Thick Film)
Res Thick Film 0402 5.1M Ohm 5% 0.063W(1/16W) ±100ppm/C Molded SMD Paper T/R; Manufacturer: Yageo; Manufacturer Part Number: RC0402JR-075M1L; Voltage Rating (DC): 50V; Supplier: Future Electronics; Supplier Part Number: 3916483; RoHS: Yes; Category: Chip SMD Resistors; Stock: 50000; Pricing: 10000=0.0006, 50000=0.0005, 250000=0.0005, 500000=0.0005, 1500000=0.0005 (USD); Lead Free: 5697LeadFree; ComponentLink1URL: https://datasheet.ciiva.com/17086/pyu-rc0402-51-rohs-l-6-r-17086462.pdf?src-supplier=Future+Electronics; ComponentLink1Description: https://datasheet.ciiva.com/17086/pyu-rc0402-51-rohs-l-6-r-17086462.pdf?src-supplier=Future+Electronics; ComponentLink2URL: https://datasheet.ciiva.com/8892/pyu-rc0402-51-rohs-l-6-8892758.pdf?src-supplier=Avnet; ComponentLink2Description: https://datasheet.ciiva.com/8892/pyu-rc0402-51-rohs-l-6-8892758.pdf?src-supplier=Avnet
footprint SMD-RES-0402-YAGEO
pins: 1, 2

## RES; 5K; 0402; SMD; RC0402FR-075KL
designator R?, comment value 5K  Package: 0402  (hidden comment: 5 kOhms ±1% 0.063W, 1/16W Chip Resistor 0402 (1005 Metric) Moisture Resistant Thick Film)
Res Thick Film 0402 5K Ohm 1% 0.063W(1/16W) ±100ppm/C Pad SMD T/R; Manufacturer: Yageo; Manufacturer Part Number: RC0402FR-075KL; Voltage Rating: 50V; Supplier: Avnet; Supplier Part Number: 49AK1524; RoHS: Yes; Category: Chip SMD Resistors; Stock: 1854; Pricing: 1=0.104, 25=0.01, 100=0.008, 250=0.007, 1000=0.006 (USD); ComponentLink1URL: https://datasheet.octopart.com/RC0402FR-075KL-Yageo-datasheet-164759695.pdf?src-supplier=Future+Electronics; ComponentLink1Description: https://datasheet.octopart.com/RC0402FR-075KL-Yageo-datasheet-164759695.pdf?src-supplier=Future+Electronics; ComponentLink2URL: http://www.yageo.com/documents/recent/PYu-RC_Group_51_RoHS_L_9.pdf?src-supplier=Digikey; ComponentLink2Description: http://www.yageo.com/documents/recent/PYu-RC_Group_51_RoHS_L_9.pdf?src-supplier=Digikey
footprint SMD-RES-0402-YAGEO
pins: 1, 2

## RES; 5mR; 1206; SMD; PE1206FRF070R005L
designator R?, comment value 5mR  Package: 1206  (hidden comment: 5 mOhms ±1% 0.25W, 1/4W Chip Resistor 1206 (3216 Metric) Automotive AEC-Q200, Current Sense Metal Film)
SMD Current Sense Resistor, 5 Milliohm, ± 1%, 250 mW, 1206 [3216 Metric], Metal Film; Manufacturer: Yageo; Manufacturer Part Number: PE1206FRF070R005L; Supplier: Digikey; Supplier Part Number: 13-PE1206FRF070R005LCT-ND; RoHS: Yes; Category: Chip SMD Resistors; Stock: 22453; Pricing: 1=0.44, 10=0.285, 25=0.2412, 50=0.214, 100=0.1908, 250=0.1654, 500=0.14948, 1000=0.13594 (USD); ComponentLink1URL: http://www.mouser.com/ds/2/447/PYu-PE_521_RoHS_L_5-1077989.pdf?src-supplier=Mouser; ComponentLink1Description: http://www.mouser.com/ds/2/447/PYu-PE_521_RoHS_L_5-1077989.pdf?src-supplier=Mouser; ComponentLink2URL: http://www.yageo.com/documents/recent/PYu-PE_521_RoHS_L_5.pdf?src-supplier=Digikey; ComponentLink2Description: http://www.yageo.com/documents/recent/PYu-PE_521_RoHS_L_5.pdf?src-supplier=Digikey
footprint SMD-RES-1206-YAGEO
pins: 1, 2

## RES; 7.5K; 0402; SMD; RC0402JR-077K5L
designator R?, comment value 7.5K  Package: 0402  (hidden comment: 7.5 kOhms ±5% 0.063W, 1/16W Chip Resistor 0402 (1005 Metric) Moisture Resistant Thick Film)
Res Thick Film 0402 7.5K Ohm 5% 1/16W ±100ppm/°C Molded SMD SMD Paper T/R; Manufacturer: Yageo; Manufacturer Part Number: RC0402JR-077K5L; Supplier: Avnet; Supplier Part Number: 49AK1761; RoHS: Yes; Category: Chip SMD Resistors; Stock: 9462; Pricing: 1=0.104, 25=0.009, 100=0.006, 500=0.005 (USD); ComponentLink1URL: https://datasheet.ciiva.com/5558/pyu-rc0402-51-rohs-l-6-r-8721-5558336.pdf?src-supplier=Mouser; ComponentLink1Description: https://datasheet.ciiva.com/5558/pyu-rc0402-51-rohs-l-6-r-8721-5558336.pdf?src-supplier=Mouser; ComponentLink2URL: https://datasheet.ciiva.com/2452/pyu-r-int-thick-7-2452785.pdf?src-supplier=Digikey; ComponentLink2Description: https://datasheet.ciiva.com/2452/pyu-r-int-thick-7-2452785.pdf?src-supplier=Digikey; ComponentLink3URL: https://datasheet.ciiva.com/2452/pyu-r-int-thick-7-2452786.pdf?src-supplier=Digikey; ComponentLink3Description: https://datasheet.ciiva.com/2452/pyu-r-int-thick-7-2452786.pdf?src-supplier=Digikey; ComponentLink4URL: https://datasheet.ciiva.com/2452/pyu-r-int-thick-7-2452787.pdf?src-supplier=Digikey; ComponentLink4Description: https://datasheet.ciiva.com/2452/pyu-r-int-thick-7-2452787.pdf?src-supplier=Digikey; ComponentLink5URL: https://datasheet.ciiva.com/17195/pyu-rc0402-51-rohs-l-6-r-17195501.pdf?src-supplier=Future+Electronics; ComponentLink5Description: https://datasheet.ciiva.com/17195/pyu-rc0402-51-rohs-l-6-r-17195501.pdf?src-supplier=Future+Electronics
footprint SMD-RES-0402-YAGEO
pins: 1, 2

## RES; 7.5K; 0603; SMD; RC0603FR-07750KL
designator R?, comment value 7.5K  Package: 0603  (hidden comment: 7.5 kOhms ±1% 0.1W, 1/10W Chip Resistor 0603 (1608 Metric) Moisture Resistant Thick Film)
SMD Chip Resistor, 750 Kohm, ½ 1%, 100 Mw, 0603 [1608 Metric], Thick Film, General Purpose; Manufacturer: Yageo; Manufacturer Part Number: RC0603FR-07750KL; Voltage Rating (DC): 50V; Supplier: Future Electronics; Supplier Part Number: 1644913; RoHS: Yes; Category: Chip SMD Resistors; Stock: 185000; Pricing: 5000=0.0012, 25000=0.0012, 125000=0.0011, 250000=0.0011, 750000=0.001 (USD); Lead Free: 5697LeadFree; ComponentLink1URL: https://datasheet.ciiva.com/15189/getdatasheetpartid-326522-15189814.pdf?src-supplier=Verical; ComponentLink1Description: https://datasheet.ciiva.com/15189/getdatasheetpartid-326522-15189814.pdf?src-supplier=Verical; ComponentLink2URL: https://datasheet.ciiva.com/2454/pyu-r-int-thick-7-2454339.pdf?src-supplier=Digikey; ComponentLink2Description: https://datasheet.ciiva.com/2454/pyu-r-int-thick-7-2454339.pdf?src-supplier=Digikey; ComponentLink3URL: https://datasheet.ciiva.com/2454/pyu-r-int-thick-7-2454340.pdf?src-supplier=Digikey; ComponentLink3Description: https://datasheet.ciiva.com/2454/pyu-r-int-thick-7-2454340.pdf?src-supplier=Digikey; ComponentLink4URL: https://datasheet.ciiva.com/2454/pyu-r-int-thick-7-2454341.pdf?src-supplier=Digikey; ComponentLink4Description: https://datasheet.ciiva.com/2454/pyu-r-int-thick-7-2454341.pdf?src-supplier=Digikey
footprint SMD-RES-0603-YAGEO
pins: 1, 2